# Altium integrated library TPS2553DRVT-1.IntLib: 1 symbol
Pins are listed as number, name and electrical type; pins without a type are passive.

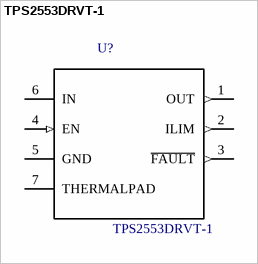
[diagram p0: symbol TPS2553DRVT-1]

## TPS2553DRVT-1
designator U?
IC PWR DIST SWITCH ADJ 6SON; MF: Texas Instruments; Price: 1.41 USD; MP: TPS2553DRVT-1; Package: SON-6 Texas Instruments; Availability: Good; Value: *
footprint SON65P210X210X80-7N
pins: 1 OUT (out), 2 ILIM (out), 3 ~{FAULT} (out), 4 EN (in), 5 GND, 6 IN (power), 7 THERMALPAD